# Altium footprint library Connector_Molex.PcbLib: 815 footprints (part 25 of 51)
Each footprint in its own frame and in the unit in brackets; x right, y up, seen from the top. Pads: shape width x height; smd on the part's side, far side on the other; paste and mask are expansions set on the pad; w line width, h text height; cw(c..) or ccw(c..) is an arc to the next point about the centre after c.
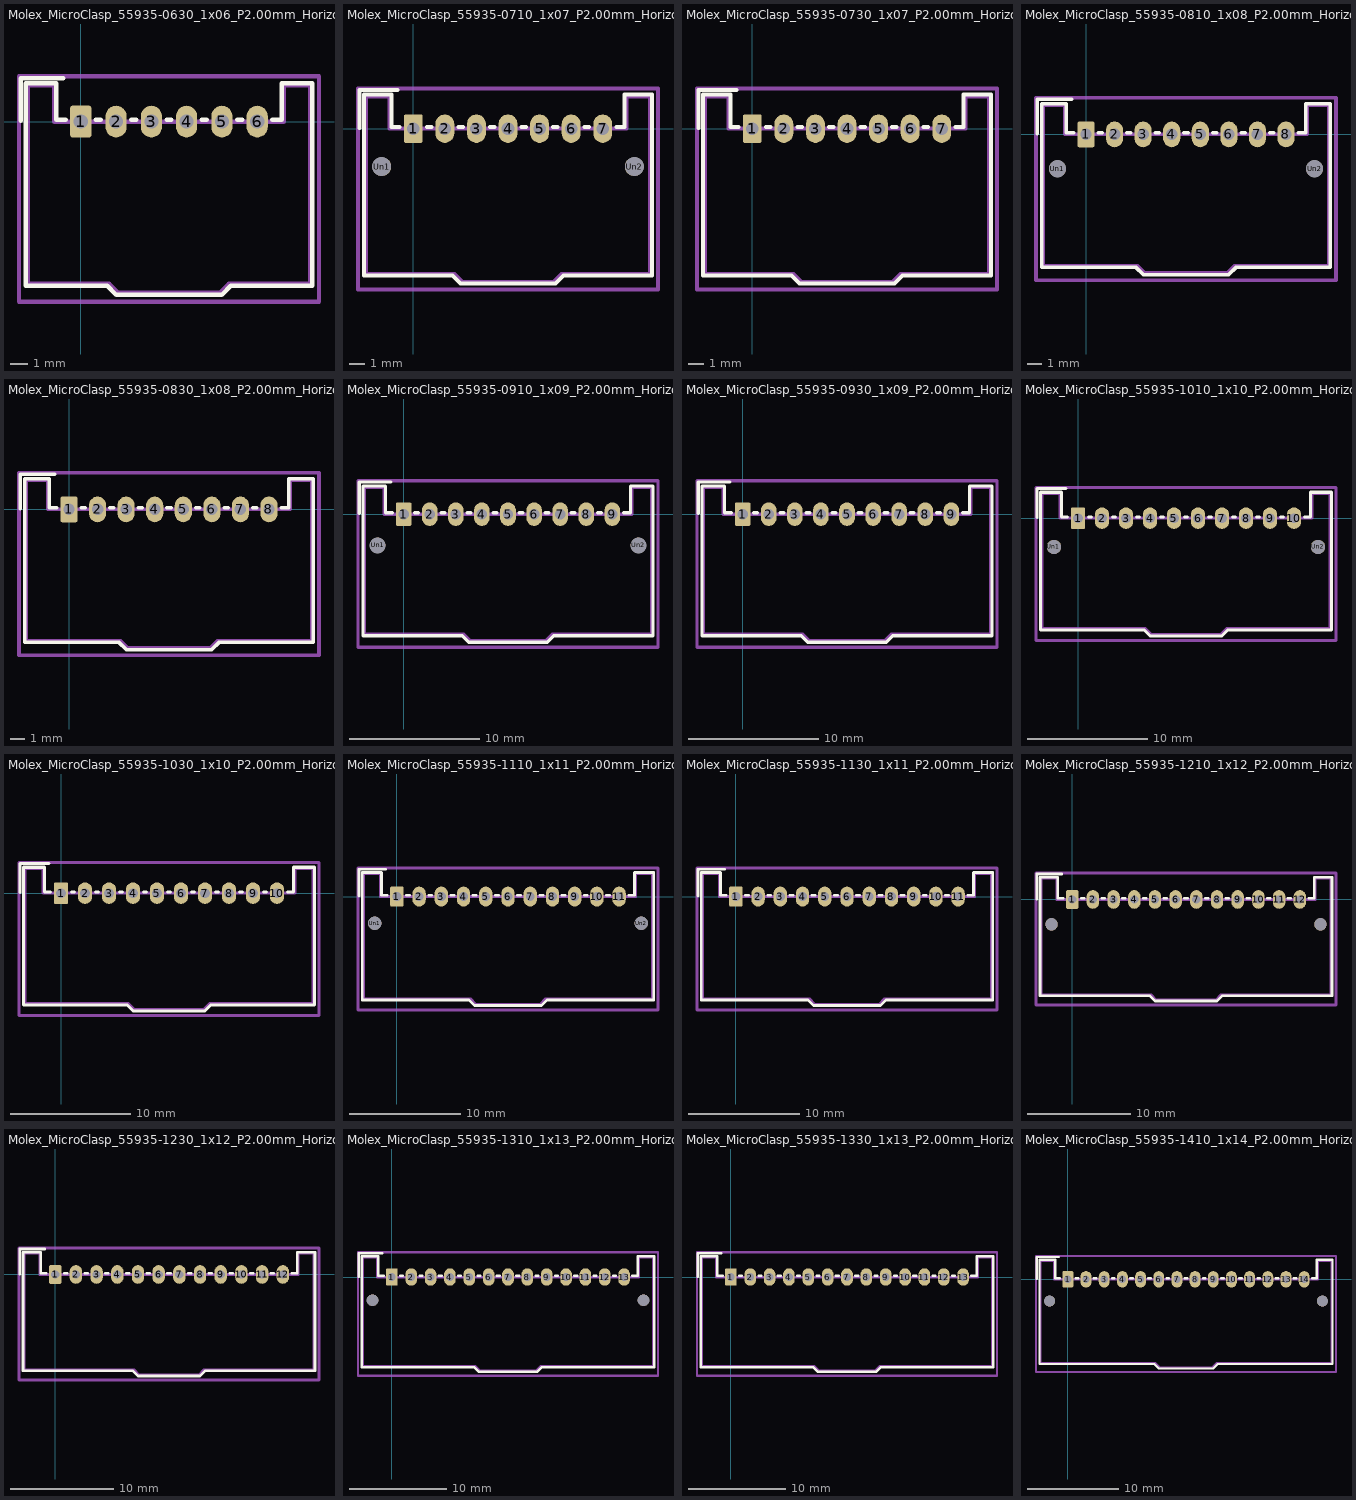
[diagram p24: the footprints below, top view; thin cyan lines are the x and y axes]

## Molex_MicroClasp_55935-0630_1x06_P2.00mm_Horizontal [mm]
pads (6):
  rrect21% 1.2x1.8 hole 0.8: 1(0,0)
  rrect100% 1.2x1.8 hole 0.8: 2(2,0) 3(4,0) 4(6,0) 5(8,0) 6(10,0)
F.SilkS:
  lines w0.254: -3.41,0.05 -3.41,2.46 -1,2.46 ; -0.86,0.11 -1.39,0.11 -1.39,2.16 -3.11,2.16 -3.11,-9.31 1.5,-9.31 2,-9.81 5,-9.81 8,-9.81 8.5,-9.31 13.11,-9.31 13.11,2.16 11.39,2.16 11.39,0.11 10.86,0.11 ; 0.86,0.11 1.14,0.11 ; 2.86,0.11 3.14,0.11 ; 4.86,0.11 5.14,0.11 ; 6.86,0.11 7.14,0.11 ; 8.86,0.11 9.14,0.11
Top Assembly:
  lines w0.254: -0.5,0 0,-0.707 0.5,0 ; -3,-9.2 1.61,-9.2 2.11,-9.7 5,-9.7 7.89,-9.7 8.39,-9.2 13,-9.2 13,2.05 11.5,2.05 11.5,0 5,0 -1.5,0 -1.5,2.05 -3,2.05 -3,-9.2
  text "'.Designator'" at 0.953,-9.34 h1
Top Courtyard:
  lines w0.254: -3.5,-10.2 13.5,-10.2 13.5,2.56 -3.5,2.56 -3.5,-10.2
Top Designator:
  text ".Designator" at -2.618,-4.328 h1.52

## Molex_MicroClasp_55935-0710_1x07_P2.00mm_Horizontal [mm]
pads (9):
  rrect21% 1.2x1.8 hole 0.8: 1(0,0)
  rrect100% 1.2x1.8 hole 0.8: 2(2,0) 3(4,0) 4(6,0) 5(8,0) 6(10,0) 7(12,0)
  round 1.2 hole 1.2: Un1(-2,-2.4) Un2(14,-2.4)
F.SilkS:
  lines w0.254: -3.41,0.05 -3.41,2.46 -1,2.46 ; -0.86,0.11 -1.39,0.11 -1.39,2.16 -3.11,2.16 -3.11,-9.31 2.5,-9.31 3,-9.81 6,-9.81 9,-9.81 9.5,-9.31 15.11,-9.31 15.11,2.16 13.39,2.16 13.39,0.11 12.86,0.11 ; 0.86,0.11 1.14,0.11 ; 2.86,0.11 3.14,0.11 ; 4.86,0.11 5.14,0.11 ; 6.86,0.11 7.14,0.11 ; 8.86,0.11 9.14,0.11 ; 10.86,0.11 11.14,0.11
Top Assembly:
  lines w0.254: -0.5,0 0,-0.707 0.5,0 ; -3,-9.2 2.61,-9.2 3.11,-9.7 6,-9.7 8.89,-9.7 9.39,-9.2 15,-9.2 15,2.05 13.5,2.05 13.5,0 6,0 -1.5,0 -1.5,2.05 -3,2.05 -3,-9.2
  text "'.Designator'" at 1.953,-9.34 h1
Top Courtyard:
  lines w0.254: -3.5,-10.2 15.5,-10.2 15.5,2.56 -3.5,2.56 -3.5,-10.2
Top Designator:
  text ".Designator" at -1.618,-4.328 h1.52

## Molex_MicroClasp_55935-0730_1x07_P2.00mm_Horizontal [mm]
pads (7):
  rrect21% 1.2x1.8 hole 0.8: 1(0,0)
  rrect100% 1.2x1.8 hole 0.8: 2(2,0) 3(4,0) 4(6,0) 5(8,0) 6(10,0) 7(12,0)
F.SilkS:
  lines w0.254: -3.41,0.05 -3.41,2.46 -1,2.46 ; -0.86,0.11 -1.39,0.11 -1.39,2.16 -3.11,2.16 -3.11,-9.31 2.5,-9.31 3,-9.81 6,-9.81 9,-9.81 9.5,-9.31 15.11,-9.31 15.11,2.16 13.39,2.16 13.39,0.11 12.86,0.11 ; 0.86,0.11 1.14,0.11 ; 2.86,0.11 3.14,0.11 ; 4.86,0.11 5.14,0.11 ; 6.86,0.11 7.14,0.11 ; 8.86,0.11 9.14,0.11 ; 10.86,0.11 11.14,0.11
Top Assembly:
  lines w0.254: -0.5,0 0,-0.707 0.5,0 ; -3,-9.2 2.61,-9.2 3.11,-9.7 6,-9.7 8.89,-9.7 9.39,-9.2 15,-9.2 15,2.05 13.5,2.05 13.5,0 6,0 -1.5,0 -1.5,2.05 -3,2.05 -3,-9.2
  text "'.Designator'" at 1.953,-9.34 h1
Top Courtyard:
  lines w0.254: -3.5,-10.2 15.5,-10.2 15.5,2.56 -3.5,2.56 -3.5,-10.2
Top Designator:
  text ".Designator" at -1.618,-4.328 h1.52

## Molex_MicroClasp_55935-0810_1x08_P2.00mm_Horizontal [mm]
pads (10):
  rrect21% 1.2x1.8 hole 0.8: 1(0,0)
  rrect100% 1.2x1.8 hole 0.8: 2(2,0) 3(4,0) 4(6,0) 5(8,0) 6(10,0) 7(12,0) 8(14,0)
  round 1.2 hole 1.2: Un1(-2,-2.4) Un2(16,-2.4)
F.SilkS:
  lines w0.254: -3.41,0.05 -3.41,2.46 -1,2.46 ; -0.86,0.11 -1.39,0.11 -1.39,2.16 -3.11,2.16 -3.11,-9.31 3.5,-9.31 4,-9.81 7,-9.81 10,-9.81 10.5,-9.31 17.11,-9.31 17.11,2.16 15.39,2.16 15.39,0.11 14.86,0.11 ; 0.86,0.11 1.14,0.11 ; 2.86,0.11 3.14,0.11 ; 4.86,0.11 5.14,0.11 ; 6.86,0.11 7.14,0.11 ; 8.86,0.11 9.14,0.11 ; 10.86,0.11 11.14,0.11 ; 12.86,0.11 13.14,0.11
Top Assembly:
  lines w0.254: -0.5,0 0,-0.707 0.5,0 ; -3,-9.2 3.61,-9.2 4.11,-9.7 7,-9.7 9.89,-9.7 10.39,-9.2 17,-9.2 17,2.05 15.5,2.05 15.5,0 7,0 -1.5,0 -1.5,2.05 -3,2.05 -3,-9.2
  text "'.Designator'" at 2.953,-9.34 h1
Top Courtyard:
  lines w0.254: -3.5,-10.2 17.5,-10.2 17.5,2.56 -3.5,2.56 -3.5,-10.2
Top Designator:
  text ".Designator" at -0.618,-4.328 h1.52

## Molex_MicroClasp_55935-0830_1x08_P2.00mm_Horizontal [mm]
pads (8):
  rrect21% 1.2x1.8 hole 0.8: 1(0,0)
  rrect100% 1.2x1.8 hole 0.8: 2(2,0) 3(4,0) 4(6,0) 5(8,0) 6(10,0) 7(12,0) 8(14,0)
F.SilkS:
  lines w0.254: -3.41,0.05 -3.41,2.46 -1,2.46 ; -0.86,0.11 -1.39,0.11 -1.39,2.16 -3.11,2.16 -3.11,-9.31 3.5,-9.31 4,-9.81 7,-9.81 10,-9.81 10.5,-9.31 17.11,-9.31 17.11,2.16 15.39,2.16 15.39,0.11 14.86,0.11 ; 0.86,0.11 1.14,0.11 ; 2.86,0.11 3.14,0.11 ; 4.86,0.11 5.14,0.11 ; 6.86,0.11 7.14,0.11 ; 8.86,0.11 9.14,0.11 ; 10.86,0.11 11.14,0.11 ; 12.86,0.11 13.14,0.11
Top Assembly:
  lines w0.254: -0.5,0 0,-0.707 0.5,0 ; -3,-9.2 3.61,-9.2 4.11,-9.7 7,-9.7 9.89,-9.7 10.39,-9.2 17,-9.2 17,2.05 15.5,2.05 15.5,0 7,0 -1.5,0 -1.5,2.05 -3,2.05 -3,-9.2
  text "'.Designator'" at 2.953,-9.34 h1
Top Courtyard:
  lines w0.254: -3.5,-10.2 17.5,-10.2 17.5,2.56 -3.5,2.56 -3.5,-10.2
Top Designator:
  text ".Designator" at -0.618,-4.328 h1.52

## Molex_MicroClasp_55935-0910_1x09_P2.00mm_Horizontal [mm]
pads (11):
  rrect21% 1.2x1.8 hole 0.8: 1(0,0)
  rrect100% 1.2x1.8 hole 0.8: 2(2,0) 3(4,0) 4(6,0) 5(8,0) 6(10,0) 7(12,0) 8(14,0) 9(16,0)
  round 1.2 hole 1.2: Un1(-2,-2.4) Un2(18,-2.4)
F.SilkS:
  lines w0.254: -3.41,0.05 -3.41,2.46 -1,2.46 ; -0.86,0.11 -1.39,0.11 -1.39,2.16 -3.11,2.16 -3.11,-9.31 4.5,-9.31 5,-9.81 8,-9.81 11,-9.81 11.5,-9.31 19.11,-9.31 19.11,2.16 17.39,2.16 17.39,0.11 16.86,0.11 ; 0.86,0.11 1.14,0.11 ; 2.86,0.11 3.14,0.11 ; 4.86,0.11 5.14,0.11 ; 6.86,0.11 7.14,0.11 ; 8.86,0.11 9.14,0.11 ; 10.86,0.11 11.14,0.11 ; 12.86,0.11 13.14,0.11 ; 14.86,0.11 15.14,0.11
Top Assembly:
  lines w0.254: -0.5,0 0,-0.707 0.5,0 ; -3,-9.2 4.61,-9.2 5.11,-9.7 8,-9.7 10.89,-9.7 11.39,-9.2 19,-9.2 19,2.05 17.5,2.05 17.5,0 8,0 -1.5,0 -1.5,2.05 -3,2.05 -3,-9.2
  text "'.Designator'" at 3.953,-9.34 h1
Top Courtyard:
  lines w0.254: -3.5,-10.2 19.5,-10.2 19.5,2.56 -3.5,2.56 -3.5,-10.2
Top Designator:
  text ".Designator" at 0.382,-4.328 h1.52

## Molex_MicroClasp_55935-0930_1x09_P2.00mm_Horizontal [mm]
pads (9):
  rrect21% 1.2x1.8 hole 0.8: 1(0,0)
  rrect100% 1.2x1.8 hole 0.8: 2(2,0) 3(4,0) 4(6,0) 5(8,0) 6(10,0) 7(12,0) 8(14,0) 9(16,0)
F.SilkS:
  lines w0.254: -3.41,0.05 -3.41,2.46 -1,2.46 ; -0.86,0.11 -1.39,0.11 -1.39,2.16 -3.11,2.16 -3.11,-9.31 4.5,-9.31 5,-9.81 8,-9.81 11,-9.81 11.5,-9.31 19.11,-9.31 19.11,2.16 17.39,2.16 17.39,0.11 16.86,0.11 ; 0.86,0.11 1.14,0.11 ; 2.86,0.11 3.14,0.11 ; 4.86,0.11 5.14,0.11 ; 6.86,0.11 7.14,0.11 ; 8.86,0.11 9.14,0.11 ; 10.86,0.11 11.14,0.11 ; 12.86,0.11 13.14,0.11 ; 14.86,0.11 15.14,0.11
Top Assembly:
  lines w0.254: -0.5,0 0,-0.707 0.5,0 ; -3,-9.2 4.61,-9.2 5.11,-9.7 8,-9.7 10.89,-9.7 11.39,-9.2 19,-9.2 19,2.05 17.5,2.05 17.5,0 8,0 -1.5,0 -1.5,2.05 -3,2.05 -3,-9.2
  text "'.Designator'" at 3.953,-9.34 h1
Top Courtyard:
  lines w0.254: -3.5,-10.2 19.5,-10.2 19.5,2.56 -3.5,2.56 -3.5,-10.2
Top Designator:
  text ".Designator" at 0.382,-4.328 h1.52

## Molex_MicroClasp_55935-1010_1x10_P2.00mm_Horizontal [mm]
pads (12):
  rrect21% 1.2x1.8 hole 0.8: 1(0,0)
  rrect100% 1.2x1.8 hole 0.8: 2(2,0) 3(4,0) 4(6,0) 5(8,0) 6(10,0) 7(12,0) 8(14,0) 9(16,0) 10(18,0)
  round 1.2 hole 1.2: Un1(-2,-2.4) Un2(20,-2.4)
F.SilkS:
  lines w0.254: -3.41,0.05 -3.41,2.46 -1,2.46 ; -0.86,0.11 -1.39,0.11 -1.39,2.16 -3.11,2.16 -3.11,-9.31 5.5,-9.31 6,-9.81 9,-9.81 12,-9.81 12.5,-9.31 21.11,-9.31 21.11,2.16 19.39,2.16 19.39,0.11 18.86,0.11 ; 0.86,0.11 1.14,0.11 ; 2.86,0.11 3.14,0.11 ; 4.86,0.11 5.14,0.11 ; 6.86,0.11 7.14,0.11 ; 8.86,0.11 9.14,0.11 ; 10.86,0.11 11.14,0.11 ; 12.86,0.11 13.14,0.11 ; 14.86,0.11 15.14,0.11 ; 16.86,0.11 17.14,0.11
Top Assembly:
  lines w0.254: -0.5,0 0,-0.707 0.5,0 ; -3,-9.2 5.61,-9.2 6.11,-9.7 9,-9.7 11.89,-9.7 12.39,-9.2 21,-9.2 21,2.05 19.5,2.05 19.5,0 9,0 -1.5,0 -1.5,2.05 -3,2.05 -3,-9.2
  text "'.Designator'" at 4.953,-9.34 h1
Top Courtyard:
  lines w0.254: -3.5,-10.2 21.5,-10.2 21.5,2.56 -3.5,2.56 -3.5,-10.2
Top Designator:
  text ".Designator" at 1.382,-4.328 h1.52

## Molex_MicroClasp_55935-1030_1x10_P2.00mm_Horizontal [mm]
pads (10):
  rrect21% 1.2x1.8 hole 0.8: 1(0,0)
  rrect100% 1.2x1.8 hole 0.8: 2(2,0) 3(4,0) 4(6,0) 5(8,0) 6(10,0) 7(12,0) 8(14,0) 9(16,0) 10(18,0)
F.SilkS:
  lines w0.254: -3.41,0.05 -3.41,2.46 -1,2.46 ; -0.86,0.11 -1.39,0.11 -1.39,2.16 -3.11,2.16 -3.11,-9.31 5.5,-9.31 6,-9.81 9,-9.81 12,-9.81 12.5,-9.31 21.11,-9.31 21.11,2.16 19.39,2.16 19.39,0.11 18.86,0.11 ; 0.86,0.11 1.14,0.11 ; 2.86,0.11 3.14,0.11 ; 4.86,0.11 5.14,0.11 ; 6.86,0.11 7.14,0.11 ; 8.86,0.11 9.14,0.11 ; 10.86,0.11 11.14,0.11 ; 12.86,0.11 13.14,0.11 ; 14.86,0.11 15.14,0.11 ; 16.86,0.11 17.14,0.11
Top Assembly:
  lines w0.254: -0.5,0 0,-0.707 0.5,0 ; -3,-9.2 5.61,-9.2 6.11,-9.7 9,-9.7 11.89,-9.7 12.39,-9.2 21,-9.2 21,2.05 19.5,2.05 19.5,0 9,0 -1.5,0 -1.5,2.05 -3,2.05 -3,-9.2
  text "'.Designator'" at 4.953,-9.34 h1
Top Courtyard:
  lines w0.254: -3.5,-10.2 21.5,-10.2 21.5,2.56 -3.5,2.56 -3.5,-10.2
Top Designator:
  text ".Designator" at 1.382,-4.328 h1.52

## Molex_MicroClasp_55935-1110_1x11_P2.00mm_Horizontal [mm]
pads (13):
  rrect21% 1.2x1.8 hole 0.8: 1(0,0)
  rrect100% 1.2x1.8 hole 0.8: 2(2,0) 3(4,0) 4(6,0) 5(8,0) 6(10,0) 7(12,0) 8(14,0) 9(16,0) 10(18,0) 11(20,0)
  round 1.2 hole 1.2: Un1(-2,-2.4) Un2(22,-2.4)
F.SilkS:
  lines w0.254: -3.41,0.05 -3.41,2.46 -1,2.46 ; -0.86,0.11 -1.39,0.11 -1.39,2.16 -3.11,2.16 -3.11,-9.31 6.5,-9.31 7,-9.81 10,-9.81 13,-9.81 13.5,-9.31 23.11,-9.31 23.11,2.16 21.39,2.16 21.39,0.11 20.86,0.11 ; 0.86,0.11 1.14,0.11 ; 2.86,0.11 3.14,0.11 ; 4.86,0.11 5.14,0.11 ; 6.86,0.11 7.14,0.11 ; 8.86,0.11 9.14,0.11 ; 10.86,0.11 11.14,0.11 ; 12.86,0.11 13.14,0.11 ; 14.86,0.11 15.14,0.11 ; 16.86,0.11 17.14,0.11 ; 18.86,0.11 19.14,0.11
Top Assembly:
  lines w0.254: -0.5,0 0,-0.707 0.5,0 ; -3,-9.2 6.61,-9.2 7.11,-9.7 10,-9.7 12.89,-9.7 13.39,-9.2 23,-9.2 23,2.05 21.5,2.05 21.5,0 10,0 -1.5,0 -1.5,2.05 -3,2.05 -3,-9.2
  text "'.Designator'" at 5.953,-9.34 h1
Top Courtyard:
  lines w0.254: -3.5,-10.2 23.5,-10.2 23.5,2.56 -3.5,2.56 -3.5,-10.2
Top Designator:
  text ".Designator" at 2.382,-4.328 h1.52

## Molex_MicroClasp_55935-1130_1x11_P2.00mm_Horizontal [mm]
pads (11):
  rrect21% 1.2x1.8 hole 0.8: 1(0,0)
  rrect100% 1.2x1.8 hole 0.8: 2(2,0) 3(4,0) 4(6,0) 5(8,0) 6(10,0) 7(12,0) 8(14,0) 9(16,0) 10(18,0) 11(20,0)
F.SilkS:
  lines w0.254: -3.41,0.05 -3.41,2.46 -1,2.46 ; -0.86,0.11 -1.39,0.11 -1.39,2.16 -3.11,2.16 -3.11,-9.31 6.5,-9.31 7,-9.81 10,-9.81 13,-9.81 13.5,-9.31 23.11,-9.31 23.11,2.16 21.39,2.16 21.39,0.11 20.86,0.11 ; 0.86,0.11 1.14,0.11 ; 2.86,0.11 3.14,0.11 ; 4.86,0.11 5.14,0.11 ; 6.86,0.11 7.14,0.11 ; 8.86,0.11 9.14,0.11 ; 10.86,0.11 11.14,0.11 ; 12.86,0.11 13.14,0.11 ; 14.86,0.11 15.14,0.11 ; 16.86,0.11 17.14,0.11 ; 18.86,0.11 19.14,0.11
Top Assembly:
  lines w0.254: -0.5,0 0,-0.707 0.5,0 ; -3,-9.2 6.61,-9.2 7.11,-9.7 10,-9.7 12.89,-9.7 13.39,-9.2 23,-9.2 23,2.05 21.5,2.05 21.5,0 10,0 -1.5,0 -1.5,2.05 -3,2.05 -3,-9.2
  text "'.Designator'" at 5.953,-9.34 h1
Top Courtyard:
  lines w0.254: -3.5,-10.2 23.5,-10.2 23.5,2.56 -3.5,2.56 -3.5,-10.2
Top Designator:
  text ".Designator" at 2.382,-4.328 h1.52

## Molex_MicroClasp_55935-1210_1x12_P2.00mm_Horizontal [mm]
pads (14):
  rrect21% 1.2x1.8 hole 0.8: 1(0,0)
  rrect100% 1.2x1.8 hole 0.8: 2(2,0) 3(4,0) 4(6,0) 5(8,0) 6(10,0) 7(12,0) 8(14,0) 9(16,0) 10(18,0) 11(20,0) 12(22,0)
  round 1.2 hole 1.2: Un1(-2,-2.4) Un2(24,-2.4)
F.SilkS:
  lines w0.254: -3.41,0.05 -3.41,2.46 -1,2.46 ; -0.86,0.11 -1.39,0.11 -1.39,2.16 -3.11,2.16 -3.11,-9.31 7.5,-9.31 8,-9.81 11,-9.81 14,-9.81 14.5,-9.31 25.11,-9.31 25.11,2.16 23.39,2.16 23.39,0.11 22.86,0.11 ; 0.86,0.11 1.14,0.11 ; 2.86,0.11 3.14,0.11 ; 4.86,0.11 5.14,0.11 ; 6.86,0.11 7.14,0.11 ; 8.86,0.11 9.14,0.11 ; 10.86,0.11 11.14,0.11 ; 12.86,0.11 13.14,0.11 ; 14.86,0.11 15.14,0.11 ; 16.86,0.11 17.14,0.11 ; 18.86,0.11 19.14,0.11 ; 20.86,0.11 21.14,0.11
Top Assembly:
  lines w0.254: -0.5,0 0,-0.707 0.5,0 ; -3,-9.2 7.61,-9.2 8.11,-9.7 11,-9.7 13.89,-9.7 14.39,-9.2 25,-9.2 25,2.05 23.5,2.05 23.5,0 11,0 -1.5,0 -1.5,2.05 -3,2.05 -3,-9.2
  text "'.Designator'" at 6.953,-9.34 h1
Top Courtyard:
  lines w0.254: -3.5,-10.2 25.5,-10.2 25.5,2.56 -3.5,2.56 -3.5,-10.2
Top Designator:
  text ".Designator" at 3.382,-4.328 h1.52

## Molex_MicroClasp_55935-1230_1x12_P2.00mm_Horizontal [mm]
pads (12):
  rrect21% 1.2x1.8 hole 0.8: 1(0,0)
  rrect100% 1.2x1.8 hole 0.8: 2(2,0) 3(4,0) 4(6,0) 5(8,0) 6(10,0) 7(12,0) 8(14,0) 9(16,0) 10(18,0) 11(20,0) 12(22,0)
F.SilkS:
  lines w0.254: -3.41,0.05 -3.41,2.46 -1,2.46 ; -0.86,0.11 -1.39,0.11 -1.39,2.16 -3.11,2.16 -3.11,-9.31 7.5,-9.31 8,-9.81 11,-9.81 14,-9.81 14.5,-9.31 25.11,-9.31 25.11,2.16 23.39,2.16 23.39,0.11 22.86,0.11 ; 0.86,0.11 1.14,0.11 ; 2.86,0.11 3.14,0.11 ; 4.86,0.11 5.14,0.11 ; 6.86,0.11 7.14,0.11 ; 8.86,0.11 9.14,0.11 ; 10.86,0.11 11.14,0.11 ; 12.86,0.11 13.14,0.11 ; 14.86,0.11 15.14,0.11 ; 16.86,0.11 17.14,0.11 ; 18.86,0.11 19.14,0.11 ; 20.86,0.11 21.14,0.11
Top Assembly:
  lines w0.254: -0.5,0 0,-0.707 0.5,0 ; -3,-9.2 7.61,-9.2 8.11,-9.7 11,-9.7 13.89,-9.7 14.39,-9.2 25,-9.2 25,2.05 23.5,2.05 23.5,0 11,0 -1.5,0 -1.5,2.05 -3,2.05 -3,-9.2
  text "'.Designator'" at 6.953,-9.34 h1
Top Courtyard:
  lines w0.254: -3.5,-10.2 25.5,-10.2 25.5,2.56 -3.5,2.56 -3.5,-10.2
Top Designator:
  text ".Designator" at 3.382,-4.328 h1.52

## Molex_MicroClasp_55935-1310_1x13_P2.00mm_Horizontal [mm]
pads (15):
  rrect21% 1.2x1.8 hole 0.8: 1(0,0)
  rrect100% 1.2x1.8 hole 0.8: 2(2,0) 3(4,0) 4(6,0) 5(8,0) 6(10,0) 7(12,0) 8(14,0) 9(16,0) 10(18,0) 11(20,0) 12(22,0) 13(24,0)
  round 1.2 hole 1.2: Un1(-2,-2.4) Un2(26,-2.4)
F.SilkS:
  lines w0.254: -3.41,0.05 -3.41,2.46 -1,2.46 ; -0.86,0.11 -1.39,0.11 -1.39,2.16 -3.11,2.16 -3.11,-9.31 8.5,-9.31 9,-9.81 12,-9.81 15,-9.81 15.5,-9.31 27.11,-9.31 27.11,2.16 25.39,2.16 25.39,0.11 24.86,0.11 ; 0.86,0.11 1.14,0.11 ; 2.86,0.11 3.14,0.11 ; 4.86,0.11 5.14,0.11 ; 6.86,0.11 7.14,0.11 ; 8.86,0.11 9.14,0.11 ; 10.86,0.11 11.14,0.11 ; 12.86,0.11 13.14,0.11 ; 14.86,0.11 15.14,0.11 ; 16.86,0.11 17.14,0.11 ; 18.86,0.11 19.14,0.11 ; 20.86,0.11 21.14,0.11 ; 22.86,0.11 23.14,0.11
Top Assembly:
  lines w0.254: -0.5,0 0,-0.707 0.5,0 ; -3,-9.2 -3,2.05 -1.5,2.05 -1.5,0 12,0 25.5,0 25.5,2.05 27,2.05 27,-9.2 15.39,-9.2 14.89,-9.7 12,-9.7 9.11,-9.7 8.61,-9.2 -3,-9.2
  text "'.Designator'" at 7.953,-9.34 h1
Top Courtyard:
  lines w0.254: -3.5,-10.2 -3.5,2.56 27.5,2.56 27.5,-10.2 -3.5,-10.2
Top Designator:
  text ".Designator" at 4.382,-4.328 h1.52

## Molex_MicroClasp_55935-1330_1x13_P2.00mm_Horizontal [mm]
pads (13):
  rrect21% 1.2x1.8 hole 0.8: 1(0,0)
  rrect100% 1.2x1.8 hole 0.8: 2(2,0) 3(4,0) 4(6,0) 5(8,0) 6(10,0) 7(12,0) 8(14,0) 9(16,0) 10(18,0) 11(20,0) 12(22,0) 13(24,0)
F.SilkS:
  lines w0.254: -3.41,0.05 -3.41,2.46 -1,2.46 ; -0.86,0.11 -1.39,0.11 -1.39,2.16 -3.11,2.16 -3.11,-9.31 8.5,-9.31 9,-9.81 12,-9.81 15,-9.81 15.5,-9.31 27.11,-9.31 27.11,2.16 25.39,2.16 25.39,0.11 24.86,0.11 ; 0.86,0.11 1.14,0.11 ; 2.86,0.11 3.14,0.11 ; 4.86,0.11 5.14,0.11 ; 6.86,0.11 7.14,0.11 ; 8.86,0.11 9.14,0.11 ; 10.86,0.11 11.14,0.11 ; 12.86,0.11 13.14,0.11 ; 14.86,0.11 15.14,0.11 ; 16.86,0.11 17.14,0.11 ; 18.86,0.11 19.14,0.11 ; 20.86,0.11 21.14,0.11 ; 22.86,0.11 23.14,0.11
Top Assembly:
  lines w0.254: -0.5,0 0,-0.707 0.5,0 ; -3,-9.2 8.61,-9.2 9.11,-9.7 12,-9.7 14.89,-9.7 15.39,-9.2 27,-9.2 27,2.05 25.5,2.05 25.5,0 12,0 -1.5,0 -1.5,2.05 -3,2.05 -3,-9.2
  text "'.Designator'" at 7.953,-9.34 h1
Top Courtyard:
  lines w0.254: -3.5,-10.2 27.5,-10.2 27.5,2.56 -3.5,2.56 -3.5,-10.2
Top Designator:
  text ".Designator" at 4.382,-4.328 h1.52

## Molex_MicroClasp_55935-1410_1x14_P2.00mm_Horizontal [mm]
pads (16):
  rrect21% 1.2x1.8 hole 0.8: 1(0,0)
  rrect100% 1.2x1.8 hole 0.8: 2(2,0) 3(4,0) 4(6,0) 5(8,0) 6(10,0) 7(12,0) 8(14,0) 9(16,0) 10(18,0) 11(20,0) 12(22,0) 13(24,0) 14(26,0)
  round 1.2 hole 1.2: Un1(-2,-2.4) Un2(28,-2.4)
F.SilkS:
  lines w0.254: -3.41,0.05 -3.41,2.46 -1,2.46 ; -0.86,0.11 -1.39,0.11 -1.39,2.16 -3.11,2.16 -3.11,-9.31 9.5,-9.31 10,-9.81 13,-9.81 16,-9.81 16.5,-9.31 29.11,-9.31 29.11,2.16 27.39,2.16 27.39,0.11 26.86,0.11 ; 0.86,0.11 1.14,0.11 ; 2.86,0.11 3.14,0.11 ; 4.86,0.11 5.14,0.11 ; 6.86,0.11 7.14,0.11 ; 8.86,0.11 9.14,0.11 ; 10.86,0.11 11.14,0.11 ; 12.86,0.11 13.14,0.11 ; 14.86,0.11 15.14,0.11 ; 16.86,0.11 17.14,0.11 ; 18.86,0.11 19.14,0.11 ; 20.86,0.11 21.14,0.11 ; 22.86,0.11 23.14,0.11 ; 24.86,0.11 25.14,0.11
Top Assembly:
  lines w0.254: -0.5,0 0,-0.707 0.5,0 ; -3,-9.2 9.61,-9.2 10.11,-9.7 13,-9.7 15.89,-9.7 16.39,-9.2 29,-9.2 29,2.05 27.5,2.05 27.5,0 13,0 -1.5,0 -1.5,2.05 -3,2.05 -3,-9.2
  text "'.Designator'" at 8.953,-9.34 h1
Top Courtyard:
  lines w0.254: -3.5,-10.2 29.5,-10.2 29.5,2.56 -3.5,2.56 -3.5,-10.2
Top Designator:
  text ".Designator" at 5.382,-4.328 h1.52